# Altium integrated library PMIC-DC-DC-SILERGY.IntLib: 1 symbol
Pins are listed as number, name and electrical type; pins without a type are passive.

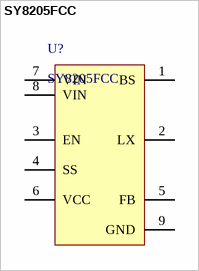
[diagram p0: symbol SY8205FCC]

## SY8205FCC
designator U?
High Efficiency Fast Response, 5A, 30V Input Synchronous Step Down Regulator; Manufacturer: Silergy; Manufacturer Part Number: SY8205FCC; LCSC: C111875; ComponentLink1Description: LCSC Link; ComponentLink1URL: https://www.lcsc.com/product-detail/C111875.html?spm=wm.fly.bg.1.xh___wm.fly.tp.26.ml&lcsc_vid=RldZXlJfEVNXXwYAFFQKVFJeFlYKVlFWQlFfXl1WRQMxVlNeRldbU1NfQllZUzsOAxUeFF5JWBYZEEoKFBINSQcJGk4NBhADEA4cHktXR1NXSQwSGg0%3D
footprint SOIC127P600X160_HS-9N (SOIC, 8-Leads, Body 4,90x3,90mm, Pitch 1,27mm, Thermal Pad 3,20x2,55mm, IPC Medium Density)
pins: 1 BS, 2 LX, 3 EN, 4 SS, 5 FB, 6 VCC, 7 VIN, 8 VIN, 9 GND